# EAGLE library part UT01VS33D (library U-COBHAM-UT01VS33D-Voltage-Supervisor)
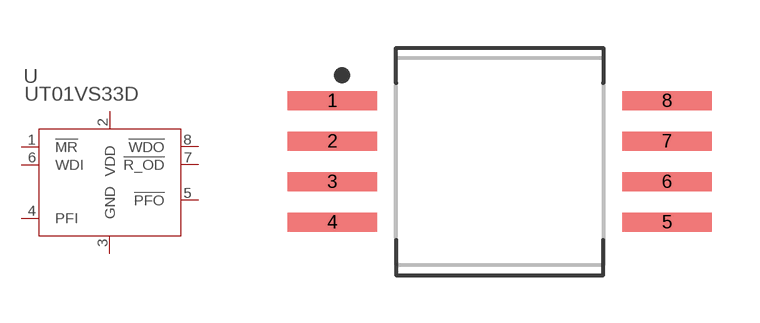
[diagram p0: symbol with the pads of SOIC127P1250X260-9T460X650N; footprint SOIC127P1250X260-9T460X650N]

Designator prefix U

## UT01VS33DFLATDI_8  [SOIC127P1250X260-9T460X650N]
1  !MR  in
2  VDD  pwr
3  GND  pwr
4  PFI  in
5  !PFO  out
6  WDI  out
7  !R_OD  out
8  !WDO  out

## Footprint SOIC127P1250X260-9T460X650N (pad centres in mm)
8-SOIC, 1.27 mm pitch, 12.50 mm span, 6.50 X 6.50 X 2.60 mm body, 6.50 X 4.60 mm thermal pad 8-pin SOIC package with 1.27 mm pitch, 12.50 mm span with body size 6.50 X 6.50 X 2.60 mm and thermal pad size 6.50 X 4.60 mm
smd 2.812 x 0.597: 1 -5.25,1.905; 2 -5.25,0.635; 3 -5.25,-0.635; 4 -5.25,-1.905; 5 5.25,-1.905; 6 5.25,-0.635; 7 5.25,0.635; 8 5.25,1.905